# EAGLE library part LM2576SX-3.3/NOPB (library my-Texas-Instruments)
Switching Voltage Regulators 3A SD VTG Reg
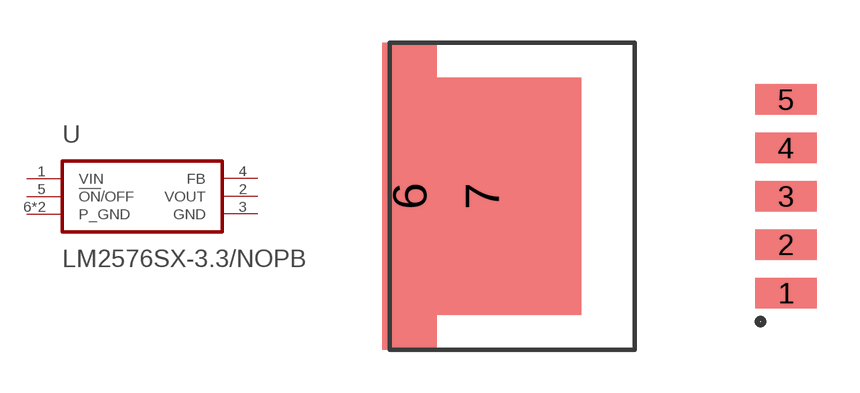
[diagram p0: symbol with the pads of TO-263-5; footprint TO-263-5]

Designator prefix -

## LM2576SX-3.3/NOPB  [TO-263-5]
1  VIN
2  VOUT
3  GND
4  FB
5  !ON!/OFF
6  P_GND
7  P_GND

## Footprint TO-263-5 (pad centres in mm)
smd 2.16 x 1.07: 1 4.5,-3.4; 2 4.5,-1.7; 3 4.5,0; 4 4.5,1.7; 5 4.5,3.4
smd 1.91 x 10.8: 6 -8.715,0
smd 6.99 x 8.33: 7 -6.175,0